# EAGLE library part TL071 (library MyAmps)
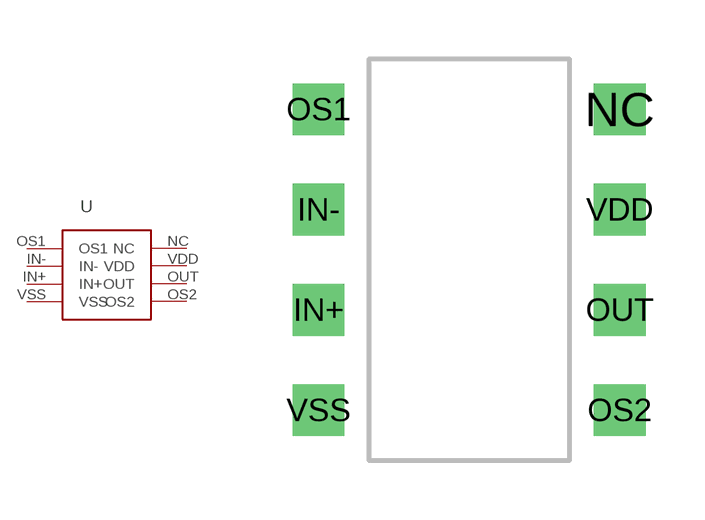
[diagram p0: symbol with the pads of TL071; footprint TL071]

Designator prefix -

## TL071  [TL071]
IN+  IN+
IN-  IN-
NC  NC
OS1  OS1
OS2  OS2
OUT  OUT
VDD  VDD
VSS  VSS

## Footprint TL071 (pad centres in mm)
drill 0.8 square: IN+ -3.81,0; IN- -3.81,2.54; NC 3.81,5.08; OS1 -3.81,5.08; OS2 3.81,-2.54; OUT 3.81,0; VDD 3.81,2.54; VSS -3.81,-2.54